# EAGLE library part TMP102AIDRLT (library Sensor)
SENSOR DIGITAL -40C-125C SOT563 Manufacturer's datasheet <http://www.ti.com/general/docs/suppproductinfo.tsp?distId=10&gotoUrl=http%3A%2F%2Fwww.ti.com%2Flit%2Fgpn%2Ftmp102>
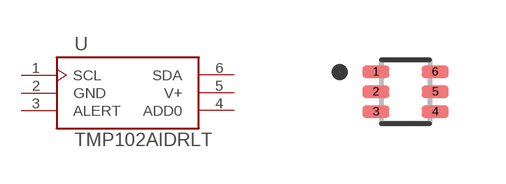
[diagram p1: symbol with the pads of SOT-563; footprint SOT-563]

Designator prefix U

## TMP102AIDRLT (CREATED_BY: PCBLayout.com; DIGI_KEY_PART_NUMBER: 296-22055-1-ND; MANUFACTURER: Texas Instruments; MPN: TMP102AIDRLT; PACKAGE: SOT-563)  [SOT-563]
1  SCL  out
2  GND  pwr
3  ALERT  out
4  ADD0  in
5  V+  pwr
6  SDA

## Footprint SOT-563 (pad centres in mm)
smd 0.67 x 0.3: 1 -0.74,0.5; 2 -0.74,0; 3 -0.74,-0.5; 4 0.74,-0.5; 5 0.74,0; 6 0.74,0.5